# Altium footprint library EsoCore.PcbLib: 105 footprints (part 6 of 7)
Each footprint in its own frame and in the unit in brackets; x right, y up, seen from the top. Pads: shape width x height; smd on the part's side, far side on the other; paste and mask are expansions set on the pad; w line width, h text height; cw(c..) or ccw(c..) is an arc to the next point about the centre after c.
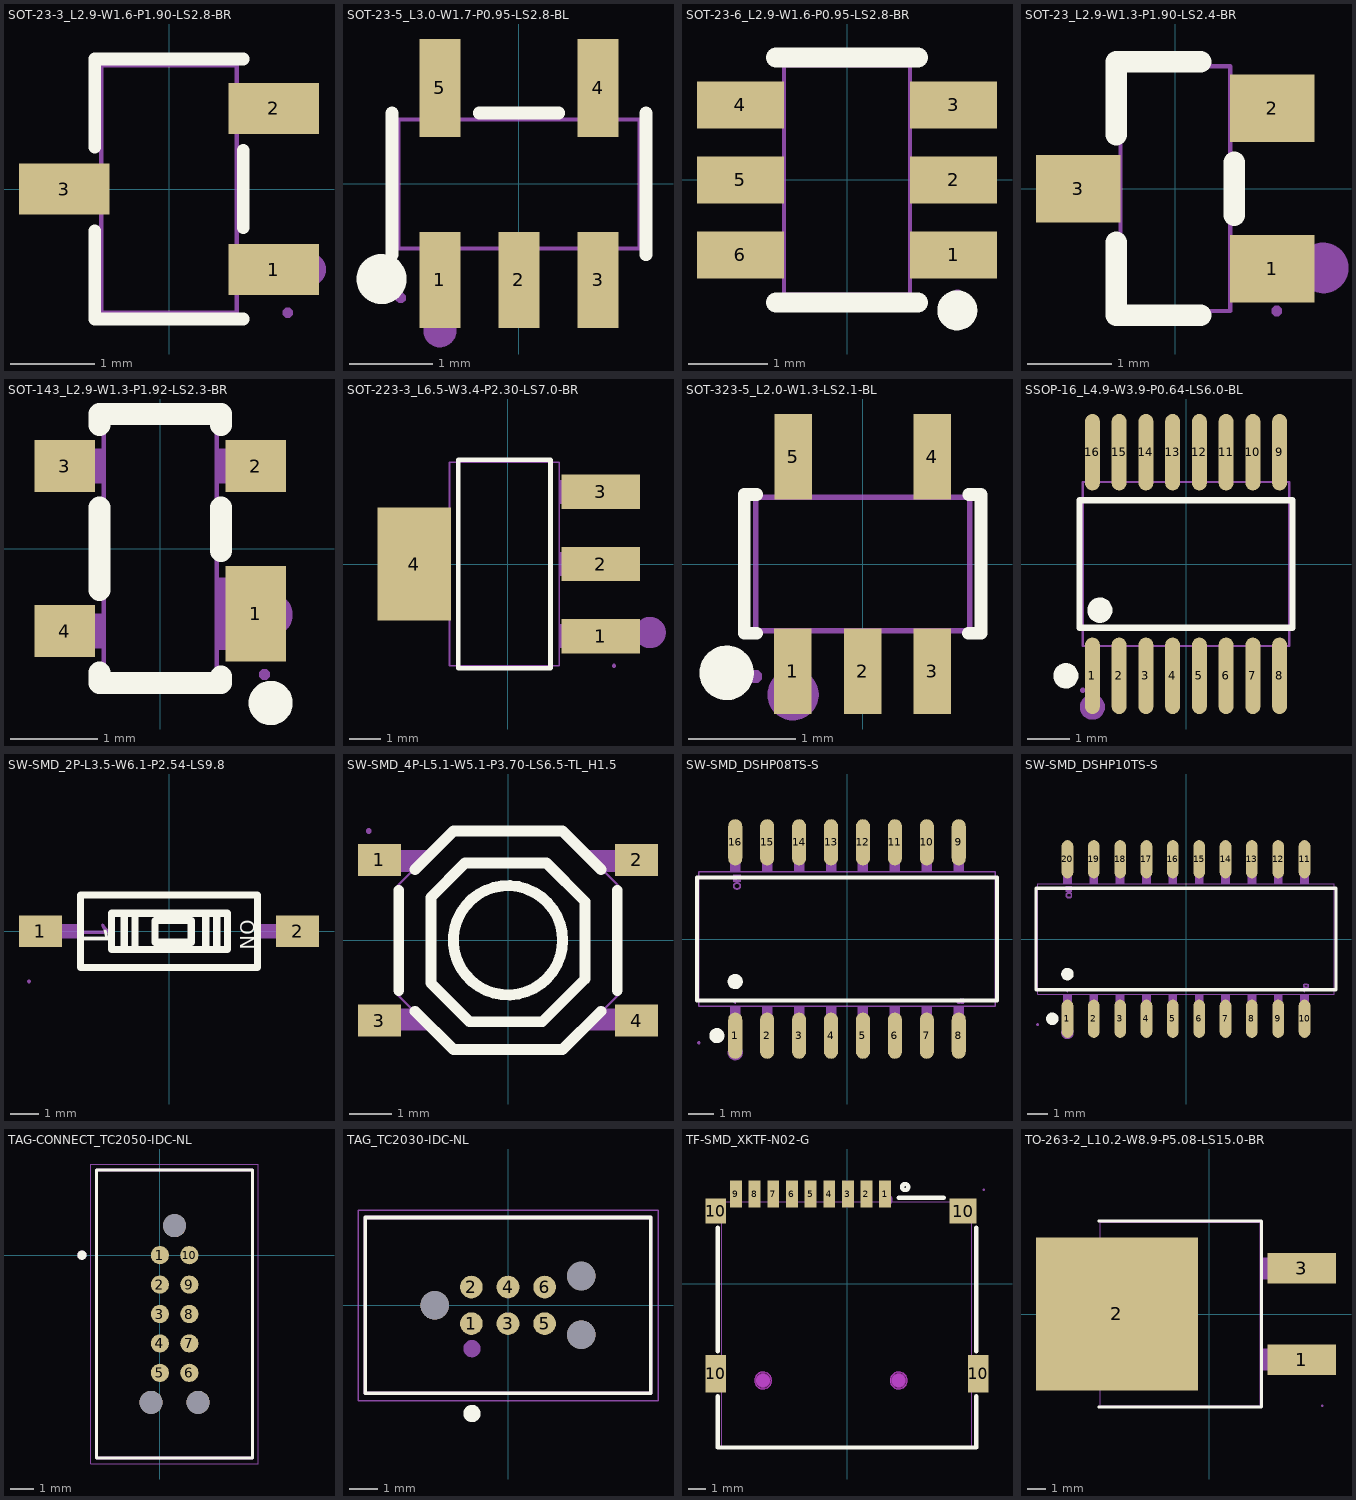
[diagram p5: the footprints below, top view; thin cyan lines are the x and y axes]

## SOT-23-3_L2.9-W1.6-P1.90-LS2.8-BR [mm]
pads (3):
  rect 1.07x0.6 smd: 1(1.235,-0.95) 2(1.235,0.95) 3(-1.235,0)
Top Overlay:
  lines w0.152: -0.876,-0.495 -0.876,-1.536 0.876,-1.536 ; -0.876,0.495 -0.876,1.536 0.876,1.536 ; 0.876,-0.455 0.876,0.455
Mechanical 6:
  circle w0.2: c1.651,-0.95 r0.1
Mechanical 15:
  region: 1.46,-1.46 1.46,-1.485 1.425,-1.52 1.375,-1.52 1.34,-1.485 1.34,-1.46 1.34,-1.435 1.375,-1.4 1.425,-1.4 1.46,-1.435 1.46,-1.46
  region: 0.95,-1.15 0.95,-0.75 1.4,-0.75 1.4,-1.15
  region: 0.79,-1.15 0.79,-0.75 0.96,-0.75 0.96,-1.15
  region: 0.95,0.75 0.95,1.15 1.4,1.15 1.4,0.75
  region: 0.79,0.75 0.79,1.15 0.96,1.15 0.96,0.75
  region: -0.95,-0.2 -0.95,0.2 -1.4,0.2 -1.4,-0.2
  region: -0.96,-0.2 -0.96,0.2 -0.79,0.2 -0.79,-0.2
  lines w0.051: -0.8,-1.46 -0.8,1.46 0.8,1.46 0.8,-1.46 -0.8,-1.46
3D body "sot23X.step": height 1.05, standoff 0, extent -1.253,-1.45 1.253,1.45

## SOT-23-5_L3.0-W1.7-P0.95-LS2.8-BL [mm]
pads (5):
  rect 0.49x1.157 smd: 1(-0.95,-1.154) 2(0,-1.154) 3(0.95,-1.154)
  rect 0.49x1.175 smd: 4(0.95,1.154) 5(-0.95,1.154)
Top Overlay:
  circle w0.3: c-1.651,-1.143 r0.15
  lines w0.152: -1.526,-0.851 -1.526,0.851 ; -0.476,0.851 0.476,0.851 ; 1.526,-0.851 1.526,0.851
Mechanical 6:
  circle w0.2: c-0.95,-1.763 r0.1
Mechanical 15:
  region: -1.125,-1.4 -1.125,-1 -0.775,-1 -0.775,-1.4
  region: -1.125,-1.01 -1.125,-0.74 -0.775,-0.74 -0.775,-1.01
  region: -0.175,-1.4 -0.175,-1 0.175,-1 0.175,-1.4
  region: -0.175,-1.01 -0.175,-0.74 0.175,-0.74 0.175,-1.01
  region: 0.775,-1.4 0.775,-1 1.125,-1 1.125,-1.4
  region: 0.775,-1.01 0.775,-0.74 1.125,-0.74 1.125,-1.01
  region: 0.775,1 0.775,1.4 1.125,1.4 1.125,1
  region: 0.775,0.74 0.775,1.01 1.125,1.01 1.125,0.74
  region: -1.125,1 -1.125,1.4 -0.775,1.4 -0.775,1
  region: -1.125,0.74 -1.125,1.01 -0.775,1.01 -0.775,0.74
  region: -1.36,-1.37 -1.36,-1.395 -1.395,-1.43 -1.445,-1.43 -1.48,-1.395 -1.48,-1.37 -1.48,-1.345 -1.445,-1.31 -1.395,-1.31 -1.36,-1.345 -1.36,-1.37
  lines w0.051: -1.45,-0.775 -1.45,0.775 1.45,0.775 1.45,-0.775 -1.45,-0.775
3D body "sot-23_5X.step": height 1.25, standoff 0, extent -1.45,-1.506 1.45,1.506

## SOT-23-6_L2.9-W1.6-P0.95-LS2.8-BR [mm]
pads (6):
  rect 1.1x0.6 smd paste+0 mask+0.051: 1(1.35,-0.95) 2(1.35,0) 3(1.35,0.95) 4(-1.35,0.95) 5(-1.35,0) 6(-1.35,-0.95)
Top Overlay:
  circle w0.254: c1.397,-1.651 r0.127
  lines w0.254: -0.9,-1.55 0.9,-1.55 ; -0.9,1.55 0.9,1.55
Mechanical 6:
  circle w0.2: c1.4,-0.95 r0.1
Mechanical 15:
  region: 0.935,1.165 0.935,0.735 0.79,0.735 0.79,1.165
  region: 0.935,0.215 0.935,-0.215 0.79,-0.215 0.79,0.215
  region: 0.935,-0.735 0.935,-1.165 0.79,-1.165 0.79,-0.735
  region: -0.935,-1.165 -0.935,-0.735 -0.79,-0.735 -0.79,-1.165
  region: -0.935,-0.215 -0.935,0.215 -0.79,0.215 -0.79,-0.215
  region: 0.925,-1.165 0.925,-0.735 1.4,-0.735 1.4,-1.165
  region: 0.925,-0.215 0.925,0.215 1.4,0.215 1.4,-0.215
  region: 0.925,0.735 0.925,1.165 1.4,1.165 1.4,0.735
  region: -0.935,0.735 -0.935,1.165 -0.79,1.165 -0.79,0.735
  region: -0.925,0.735 -0.925,1.165 -1.4,1.165 -1.4,0.735
  region: -0.925,-0.215 -0.925,0.215 -1.4,0.215 -1.4,-0.215
  region: -0.925,-1.165 -0.925,-0.735 -1.4,-0.735 -1.4,-1.165
  region: 1.46,-1.45 1.46,-1.475 1.425,-1.51 1.375,-1.51 1.34,-1.475 1.34,-1.45 1.34,-1.425 1.375,-1.39 1.425,-1.39 1.46,-1.425 1.46,-1.45
  lines w0.051: -0.8,-1.45 0.8,-1.45 0.8,1.45 -0.8,1.45 -0.8,-1.45
3D body "sot23X-6.step": height 1.65, standoff 0, extent -1.406,-1.45 1.406,1.45

## SOT-23_L2.9-W1.3-P1.90-LS2.4-BR [mm]
pads (3):
  rect 1x0.8 smd: 1(1.15,-0.95) 2(1.15,0.95) 3(-1.15,0)
Top Overlay:
  lines w0.254: -0.7,-0.636 -0.7,-1.5 0.3,-1.5 ; -0.7,0.636 -0.7,1.5 0.3,1.5 ; 0.7,-0.314 0.7,0.314
Mechanical 6:
  circle w0.3: c1.753,-0.94 r0.15
Mechanical 15:
  region: 1.26,-1.45 1.26,-1.475 1.225,-1.51 1.175,-1.51 1.14,-1.475 1.14,-1.45 1.14,-1.425 1.175,-1.39 1.225,-1.39 1.26,-1.425 1.26,-1.45
  region: 0.64,-1.15 0.64,-0.75 0.81,-0.75 0.81,-1.15
  region: 0.8,-1.15 0.8,-0.75 1.2,-0.75 1.2,-1.15
  region: 0.64,0.75 0.64,1.15 0.81,1.15 0.81,0.75
  region: 0.8,0.75 0.8,1.15 1.2,1.15 1.2,0.75
  region: -0.81,-0.2 -0.81,0.2 -0.64,0.2 -0.64,-0.2
  region: -1.2,-0.2 -1.2,0.2 -0.8,0.2 -0.8,-0.2
  lines w0.051: -0.65,-1.45 -0.65,1.45 0.65,1.45 0.65,-1.45 -0.65,-1.45
3D body "sot23.step": height 1.05, standoff 0, extent -1.253,-1.45 1.253,1.45

## SOT-143_L2.9-W1.3-P1.92-LS2.3-BR [mm]
pads (4):
  rect 0.7x1.1 smd: 1(1.1,-0.75)
  rect 0.7x0.6 smd: 2(1.1,0.95) 3(-1.1,0.95) 4(-1.1,-0.95)
Top Overlay:
  circle w0.254: c1.27,-1.778 r0.127
  lines w0.254: -0.7,-1.425 -0.7,-1.55 0.7,-1.55 0.7,-1.475 ; -0.7,-0.475 -0.7,0.475 ; -0.7,1.425 -0.7,1.55 0.7,1.55 0.7,1.425 ; 0.7,-0.025 0.7,0.475
Mechanical 6:
  circle w0.254: c1.27,-0.762 r0.127
Mechanical 15:
  region: 0.8,-1.162 0.8,-0.337 1.2,-0.337 1.2,-1.162
  region: 0.64,-1.162 0.64,-0.337 0.81,-0.337 0.81,-1.162
  region: 0.8,0.75 0.8,1.15 1.2,1.15 1.2,0.75
  region: 0.64,0.75 0.64,1.15 0.81,1.15 0.81,0.75
  region: -1.2,0.75 -1.2,1.15 -0.8,1.15 -0.8,0.75
  region: -0.81,0.75 -0.81,1.15 -0.64,1.15 -0.64,0.75
  region: -1.2,-1.15 -1.2,-0.75 -0.8,-0.75 -0.8,-1.15
  region: -0.81,-1.15 -0.81,-0.75 -0.64,-0.75 -0.64,-1.15
  region: 1.26,-1.45 1.26,-1.475 1.225,-1.51 1.175,-1.51 1.14,-1.475 1.14,-1.45 1.14,-1.425 1.175,-1.39 1.225,-1.39 1.26,-1.425 1.26,-1.45
  lines w0.051: -0.65,-1.45 0.65,-1.45 0.65,1.45 -0.65,1.45 -0.65,-1.45
3D body "sot143.step": height 1.1, standoff 0, extent -1.143,-1.427 1.143,1.427

## SOT-223-3_L6.5-W3.4-P2.30-LS7.0-BR [mm]
pads (4):
  rect 2.5x1.1 smd: 1(2.97,-2.3) 2(2.97,0) 3(2.97,2.3)
  rect 2.34x3.6 smd: 4(-2.97,0)
Top Overlay:
  lines w0.152: -1.571,-3.326 1.371,-3.326 1.371,3.326 -1.571,3.326 -1.571,-3.326
Mechanical 6:
  circle w0.5: c4.552,-2.188 r0.25
Mechanical 15:
  region: -3.6,-1.5 -3.6,1.5 -2.85,1.5 -2.85,-1.5
  region: -2.86,-1.5 -2.86,1.5 -1.84,1.5 -1.84,-1.5
  region: 2.65,-2.675 2.65,-1.925 3.4,-1.925 3.4,-2.675
  region: 1.64,-2.675 1.64,-1.925 2.66,-1.925 2.66,-2.675
  region: 2.65,-0.375 2.65,0.375 3.4,0.375 3.4,-0.375
  region: 1.64,-0.375 1.64,0.375 2.66,0.375 2.66,-0.375
  region: 2.65,1.925 2.65,2.675 3.4,2.675 3.4,1.925
  region: 1.64,1.925 1.64,2.675 2.66,2.675 2.66,1.925
  region: 3.46,-3.25 3.46,-3.275 3.425,-3.31 3.375,-3.31 3.34,-3.275 3.34,-3.25 3.34,-3.225 3.375,-3.19 3.425,-3.19 3.46,-3.225 3.46,-3.25
  lines w0.051: -1.85,-3.25 1.65,-3.25 1.65,3.25 -1.85,3.25 -1.85,-3.25
3D body "SOT223X.step": height 1.75, standoff 0, extent -3.655,-3.25 3.455,3.25

## SOT-323-5_L2.0-W1.3-LS2.1-BL [mm]
pads (5):
  rect 0.35x0.8 smd: 1(-0.651,-1) 2(-0.001,-1) 3(0.65,-1) 4(0.651,1) 5(-0.649,1)
Top Overlay:
  circle w0.254: c-1.27,-1.016 r0.127
  lines w0.12: -0.99,-0.647 -1.106,-0.647 -1.106,0.648 -0.988,0.648 ; 0.989,-0.647 1.104,-0.647 1.104,0.648 0.99,0.648
Mechanical 6:
  circle w0.24: c-0.65,-1.22 r0.12
Mechanical 15:
  region: -1,-1.11 -1.025,-1.11 -1.06,-1.075 -1.06,-1.025 -1.025,-0.99 -1,-0.99 -0.975,-0.99 -0.94,-1.025 -0.94,-1.075 -0.975,-1.11 -1,-1.11
  region: -0.749,0.615 -0.749,0.71 -0.549,0.71 -0.549,0.615
  region: -0.749,0.7 -0.749,1.05 -0.549,1.05 -0.549,0.7
  region: 0.551,0.615 0.551,0.71 0.751,0.71 0.751,0.615
  region: 0.551,0.7 0.551,1.05 0.751,1.05 0.751,0.7
  region: -0.101,-0.71 -0.101,-0.615 0.099,-0.615 0.099,-0.71
  region: -0.101,-1.05 -0.101,-0.7 0.099,-0.7 0.099,-1.05
  region: 0.55,-0.71 0.55,-0.615 0.75,-0.615 0.75,-0.71
  region: 0.55,-1.05 0.55,-0.7 0.75,-0.7 0.75,-1.05
  region: -0.751,-0.71 -0.751,-0.615 -0.551,-0.615 -0.551,-0.71
  region: -0.751,-1.05 -0.751,-0.7 -0.551,-0.7 -0.551,-1.05
  lines w0.051: -1,-0.625 1,-0.625 1,0.625 -1,0.625 -1,-0.625
3D body "SOT23-5.step": height 0.9, standoff 0, extent -1,-1.05 1,1.05

## SSOP-16_L4.9-W3.9-P0.64-LS6.0-BL [mil]
pads (16):
  oval 14x71.45 smd: 1(-87.5,-104.52) 2(-62.5,-104.52) 3(-37.5,-104.52) 4(-12.5,-104.52) 5(12.5,-104.52) 6(37.5,-104.52) 7(62.5,-104.52) 8(87.5,-104.52) 9(87.5,104.52) 10(62.5,104.52) 11(37.5,104.52) 12(12.5,104.52) 13(-12.5,104.52) 14(-37.5,104.52) 15(-62.5,104.52) 16(-87.5,104.52)
Top Overlay:
  circle w11.81: c-80.5,-43.18 r5.91
  circle w11.81: c-112.31,-104.52 r5.91
  lines w6: -99.56,-59.8 99.56,-59.8 99.56,59.8 -99.56,59.8 -99.56,-59.8
Mechanical 6:
  circle w11.81: c-87.5,-133.76 r5.91
Mechanical 15:
  drawing of 37 lines, arcs and shapes, not listed
3D body "sop16.step": height 69.86, standoff 0, extent -96.46,-120.2 96.46,120.2

## SW-SMD_2P-L3.5-W6.1-P2.54-LS9.8 [mm]
pads (2):
  rect 1.5x1.1 smd: 1(-4.5,0) 2(4.5,0)
Top Overlay:
  lines w0.254: -1.57,-0.635 -1.57,0.635 ; -1.189,-0.635 -1.189,0.635 ; 1.288,-0.635 1.288,0.635 ; 1.669,-0.635 1.669,0.635 ; -3.1,-1.27 -3.1,1.27 3.1,1.27 3.1,-1.27 -3.1,-1.27 ; -2.014,-0.635 2.05,-0.635 2.05,0.635 -2.014,0.635 -2.014,-0.635 ; -0.49,-0.381 0.78,-0.381 0.78,0.381 -0.49,0.381 -0.49,-0.381
  text "ON" at 2.5,0.41 h0.5
  text "1" at -3.13,0.19 h1
Mechanical 6:
  region: -2.315,0.26 -2.335,0.26 -2.375,0.22 -2.355,0.15 -2.315,0.08 -2.255,0.02 -3.075,0.02 -3.085,0.03 -3.105,0.03 -3.135,0 -3.135,-0.04 -3.125,-0.07 -3.095,-0.08 -2.115,-0.08 -2.105,-0.08 -2.09,-0.075 -2.08,-0.065 -2.07,-0.055 -2.065,-0.03 -2.075,-0.01 -2.095,0.02 -2.125,0.05 -2.215,0.14 -2.275,0.24
Mechanical 15:
  region: -4.84,-1.75 -4.84,-1.775 -4.875,-1.81 -4.925,-1.81 -4.96,-1.775 -4.96,-1.75 -4.96,-1.725 -4.925,-1.69 -4.875,-1.69 -4.84,-1.725 -4.84,-1.75
  region: 3.09,-0.25 3.09,0.25 4.41,0.25 4.41,-0.25
  region: 4.4,-0.25 4.4,0.25 4.9,0.25 4.9,-0.25
  region: -4.41,-0.25 -4.41,0.25 -3.09,0.25 -3.09,-0.25
  region: -4.9,-0.25 -4.9,0.25 -4.4,0.25 -4.4,-0.25
  lines w0.051: -3.1,-1.27 -3.1,1.27 3.1,1.27 3.1,-1.27 -3.1,-1.27
3D body "sw1tx.step": height 4.15, standoff 0, extent -4.65,-1.275 4.65,1.265

## SW-SMD_4P-L5.1-W5.1-P3.70-LS6.5-TL_H1.5 [mm]
pads (4):
  rect 1x0.75 smd: 1(-3,1.875) 2(3,1.875) 3(-3,-1.875) 4(3,-1.875)
Top Overlay:
  circle w0.254: c0,0 r1.275
  lines w0.254: -2.55,-1.168 -2.55,1.168 ; -2.17,-1.655 -1.275,-2.55 1.275,-2.55 2.17,-1.655 ; -2.17,1.655 -1.275,2.55 1.275,2.55 2.17,1.655 ; 2.55,-1.168 2.55,1.168 ; -1.801,-0.998 -0.899,-1.9 0.8,-1.9 1.801,-0.899 1.801,0.899 0.899,1.801 -1.001,1.801 -1.801,1.001 -1.801,-0.998
Mechanical 15:
  region: -3.25,2.49 -3.275,2.49 -3.31,2.525 -3.31,2.575 -3.275,2.61 -3.25,2.61 -3.225,2.61 -3.19,2.575 -3.19,2.525 -3.225,2.49 -3.25,2.49
  region: 2.85,-2.1 2.85,-1.6 3.25,-1.6 3.25,-2.1
  region: 2.2,1.6 1.7,2.1 2.86,2.1 2.86,1.6
  region: 2.85,1.6 2.85,2.1 3.25,2.1 3.25,1.6
  region: -3.25,1.599 -3.25,2.099 -2.85,2.099 -2.85,1.599
  region: -3.25,-2.1 -3.25,-1.6 -2.85,-1.6 -2.85,-2.1
  region: -2.2,-1.6 -1.7,-2.1 -2.86,-2.1 -2.86,-1.6
  region: 2.201,-1.601 1.701,-2.101 2.861,-2.101 2.861,-1.601
  region: -2.2,1.599 -1.7,2.099 -2.86,2.1 -2.86,1.6
  lines w0.051: -2.55,-1.3 -1.3,-2.55 1.3,-2.55 2.55,-1.3 2.55,1.3 1.3,2.55 -1.3,2.55 -2.55,1.3 -2.55,-1.3
3D body "BTNSMD_X.step": height 1.55, standoff 0, extent -3.25,-2.601 3.25,2.599

## SW-SMD_DSHP08TS-S [mm]
pads (16):
  oval 0.56x1.84 smd: 1(-4.445,-3.845) 2(-3.175,-3.845) 3(-1.905,-3.845) 4(-0.635,-3.845) 5(0.635,-3.845) 6(1.905,-3.845) 7(3.175,-3.845) 8(4.445,-3.845) 9(4.445,3.845) 10(3.175,3.845) 11(1.905,3.845) 12(0.635,3.845) 13(-0.635,3.845) 14(-1.905,3.845) 15(-3.175,3.845) 16(-4.445,3.845)
Top Overlay:
  circle w0.3: c-4.445,-1.694 r0.15
  circle w0.3: c-5.177,-3.845 r0.15
  lines w0.152: -5.966,-2.446 -5.966,2.446 5.966,2.446 5.966,-2.446 -5.966,-2.446
Mechanical 6:
  drawing of 74 lines, arcs and shapes, not listed
Mechanical 15:
  drawing of 37 lines, arcs and shapes, not listed
3D body "switchX.step": height 2.35, standoff 0, extent -5.88,-4.25 5.88,4.25

## SW-SMD_DSHP10TS-S [mm]
pads (20):
  oval 0.56x1.84 smd: 1(-5.715,-3.845) 2(-4.445,-3.845) 3(-3.175,-3.845) 4(-1.905,-3.845) 5(-0.635,-3.845) 6(0.635,-3.845) 7(1.905,-3.845) 8(3.175,-3.845) 9(4.445,-3.845) 10(5.715,-3.845) 11(5.715,3.845) 12(4.445,3.845) 13(3.175,3.845) 14(1.905,3.845) 15(0.635,3.845) 16(-0.635,3.845) 17(-1.905,3.845) 18(-3.175,3.845) 19(-4.445,3.845) 20(-5.715,3.845)
Top Overlay:
  circle w0.3: c-6.447,-3.845 r0.15
  circle w0.3: c-5.715,-1.694 r0.15
  lines w0.152: -7.231,-2.446 7.231,-2.446 7.231,2.446 -7.231,2.446 -7.231,-2.446
Mechanical 6:
  drawing of 75 lines, arcs and shapes, not listed
Mechanical 15:
  drawing of 45 lines, arcs and shapes, not listed
3D body "sw10.step": height 2.35, standoff 0, extent -7.15,-4.25 7.15,4.25

## TAG-CONNECT_TC2050-IDC-NL [mm]
pads (13):
  round 0.787 smd paste-1: 1(0,0) 2(0,-1.27) 3(0,-2.54) 4(0,-3.81) 5(0,-5.08) 6(1.27,-5.08) 7(1.27,-3.81) 8(1.27,-2.54) 9(1.27,-1.27) 10(1.27,0)
  round 0.991 hole 0.991 unplated: ""(-0.38,-6.35) ""(0.635,1.27) ""(1.65,-6.35)
Top Overlay:
  circle w0.2: c-3.365,0 r0.1
  lines w0.127: -2.73,-8.763 -2.73,3.683 4,3.683 4,-8.763 -2.73,-8.763
Mechanical 13:
  circle w0.2: c-3.365,0 r0.1
  lines w0.127: -2.73,-8.763 -2.73,3.683 4,3.683 4,-8.763 -2.73,-8.763
Mechanical 15:
  lines w0.05: -2.98,-9.013 -2.98,3.933 4.25,3.933 4.25,-9.013 -2.98,-9.013

## TAG_TC2030-IDC-NL [mil]
pads (9):
  round 30.98 smd paste-39.37: 1(-50,-25) 2(-50,25) 3(0,-25) 4(0,25) 5(50,-25) 6(50,25)
  round 39.02 hole 39.02 unplated: ""(-100,0) ""(100,-40) ""(100,40)
Top Overlay:
  circle w11.81: c-49.21,-147.64 r5.91
  lines w5: -195,-120 -195,120 195,120 195,-120 -195,-120
Mechanical 13:
  circle w11.81: c-49.21,-59.06 r5.91
  lines w5: -195,-120 195,-120 195,120 -195,120 -195,-120
Mechanical 15:
  lines w1.97: -204.72,-129.92 204.72,-129.92 204.72,129.92 -204.72,129.92 -204.72,-129.92

## TF-SMD_XKTF-N02-G [mm]
pads (13):
  rect 0.7x1.6 smd paste+0 mask+0.051: 1(2.25,5.3) 2(1.15,5.3) 3(0.05,5.3) 4(-1.05,5.3) 5(-2.15,5.3) 6(-3.25,5.3) 7(-4.35,5.3) 8(-5.45,5.3) 9(-6.55,5.3)
  rect 1.2x2.2 smd paste+0 mask+0.051: 10(-7.75,-5.3) 10(7.75,-5.3)
  rect 1.2x1.5 smd paste+0 mask+0.051: 10(-7.75,4.3)
  rect 1.6x1.5 smd paste+0 mask+0.051: 10(6.85,4.3)
Top Overlay:
  circle w0.254: c3.429,5.715 r0.18
  lines w0.254: -7.62,-6.631 -7.62,-9.652 7.62,-9.652 7.62,-6.631 ; -7.62,-3.969 -7.62,3.319 ; 3.048,5.08 5.715,5.08 ; 7.62,-3.969 7.62,3.319
Keep-Out Layer:
  board cut-out: -5.45,-5.7 -5.45,-5.601 -5.374,-5.417 -5.233,-5.276 -5.049,-5.2 -4.85,-5.2 -4.667,-5.276 -4.526,-5.417 -4.45,-5.601 -4.45,-5.7 -4.45,-5.799 -4.526,-5.983 -4.667,-6.124 -4.85,-6.2 -5.049,-6.2 -5.233,-6.124 -5.374,-5.983 -5.45,-5.799 -5.45,-5.7
  board cut-out: 2.55,-5.7 2.55,-5.601 2.626,-5.417 2.767,-5.276 2.951,-5.2 3.149,-5.2 3.333,-5.276 3.474,-5.417 3.55,-5.601 3.55,-5.7 3.55,-5.799 3.474,-5.983 3.333,-6.124 3.149,-6.2 2.951,-6.2 2.767,-6.124 2.626,-5.983 2.55,-5.799 2.55,-5.7
Keep-Out Layer:
  circle w0.005: c-4.95,-5.7 r0.5
  circle w0.005: c3.05,-5.7 r0.5
  region: -5.45,-5.7 -5.45,-5.601 -5.374,-5.417 -5.233,-5.276 -5.049,-5.2 -4.85,-5.2 -4.667,-5.276 -4.526,-5.417 -4.45,-5.601 -4.45,-5.7 -4.45,-5.799 -4.526,-5.983 -4.667,-6.124 -4.85,-6.2 -5.049,-6.2 -5.233,-6.124 -5.374,-5.983 -5.45,-5.799 -5.45,-5.7
  region: 2.55,-5.7 2.55,-5.601 2.626,-5.417 2.767,-5.276 2.951,-5.2 3.149,-5.2 3.333,-5.276 3.474,-5.417 3.55,-5.601 3.55,-5.7 3.55,-5.799 3.474,-5.983 3.333,-6.124 3.149,-6.2 2.951,-6.2 2.767,-6.124 2.626,-5.983 2.55,-5.799 2.55,-5.7
Mechanical 1:
  circle w0.005: c-4.95,-5.7 r0.5
  circle w0.005: c3.05,-5.7 r0.5
Mechanical 6:
  circle w0.4: c2.286,4.953 r0.2
Mechanical 15:
  region: 8.01,5.548 8.01,5.573 8.045,5.608 8.095,5.608 8.13,5.573 8.13,5.548 8.13,5.523 8.095,5.488 8.045,5.488 8.01,5.523 8.01,5.548
  region: -5.35,-5.7 -5.35,-5.62 -5.289,-5.473 -5.176,-5.361 -5.029,-5.3 -4.87,-5.3 -4.723,-5.361 -4.611,-5.473 -4.55,-5.62 -4.55,-5.7 -4.55,-5.78 -4.611,-5.927 -4.723,-6.039 -4.87,-6.1 -5.029,-6.1 -5.176,-6.039 -5.289,-5.927 -5.35,-5.78 -5.35,-5.7
  region: 2.65,-5.7 2.65,-5.62 2.711,-5.473 2.824,-5.361 2.97,-5.3 3.13,-5.3 3.277,-5.361 3.389,-5.473 3.45,-5.62 3.45,-5.7 3.45,-5.78 3.389,-5.927 3.277,-6.039 3.13,-6.1 2.97,-6.1 2.824,-6.039 2.711,-5.927 2.65,-5.78 2.65,-5.7
  region: -6.7,5.548 -6.4,5.548 -6.4,4.748 -6.7,4.748
  region: -5.6,5.548 -5.3,5.548 -5.3,4.748 -5.6,4.748
  region: -4.5,5.548 -4.2,5.548 -4.2,4.748 -4.5,4.748
  region: -3.4,5.548 -3.1,5.548 -3.1,4.748 -3.4,4.748
  region: -2.3,5.548 -2,5.548 -2,4.748 -2.3,4.748
  region: -1.2,5.548 -0.9,5.548 -0.9,4.748 -1.2,4.748
  region: -0.1,5.548 0.2,5.548 0.2,4.748 -0.1,4.748
  region: 1,5.548 1.3,5.548 1.3,4.748 1,4.748
  region: 2.1,5.548 2.4,5.548 2.4,4.748 2.1,4.748
  region: 7.32,-4.5 8.07,-4.5 8.07,-6.1 7.32,-6.1
  region: -8.08,-4.5 -7.33,-4.5 -7.33,-6.1 -8.08,-6.1
  region: 6.62,3.848 6.62,4.848 7.37,4.848 7.37,3.848
  region: -8.08,4.848 -7.33,4.848 -7.33,3.848 -8.08,3.848
  lines w0.051: -7.38,-9.652 7.37,-9.652 7.37,4.848 -7.38,4.848 -7.38,-9.652
3D body "sd_card.step": height 2.15, standoff -0.5, extent -8.075,-9.696 8.075,5.504

## TO-263-2_L10.2-W8.9-P5.08-LS15.0-BR [mm]
pads (3):
  rect 3.8x1.68 smd: 1(5.144,-2.54) 3(5.144,2.54)
  rect 9x8.5 smd: 2(-5.143,0)
Top Overlay:
  lines w0.152: -6.153,-5.176 2.9,-5.176 2.9,5.176 -6.153,5.176
Mechanical 6:
  circle w0.8: c5.695,-2.54 r0.4
Mechanical 15:
  region: 6.343,-5.1 6.343,-5.125 6.308,-5.16 6.259,-5.16 6.224,-5.125 6.224,-5.1 6.224,-5.075 6.259,-5.04 6.308,-5.04 6.343,-5.075 6.343,-5.1
  region: 6.283,-1.94 3.963,-1.94 3.963,-3.14 6.283,-3.14
  region: 3.973,-1.94 2.813,-1.94 2.813,-3.14 3.973,-3.14
  region: 6.283,3.14 3.963,3.14 3.963,1.94 6.283,1.94
  region: 3.973,3.14 2.813,3.14 2.813,1.94 3.973,1.94
  region: -1.066,-3.885 -7.951,-3.885 -8.716,-3.12 -8.716,3.12 -7.951,3.885 -1.066,3.885
  lines w0.051: -6.076,-5.1 -6.076,5.1 2.823,5.1 2.823,-5.1 -6.076,-5.1
3D body "mosfet.step": height 4.7, standoff 0, extent -8.8,-5.08 6.2,5.08